# Altium footprint library Switch.PcbLib: 3 footprints
Each footprint in its own frame and in the unit in brackets; x right, y up, seen from the top. Pads: shape width x height; smd on the part's side, far side on the other; paste and mask are expansions set on the pad; w line width, h text height; cw(c..) or ccw(c..) is an arc to the next point about the centre after c.
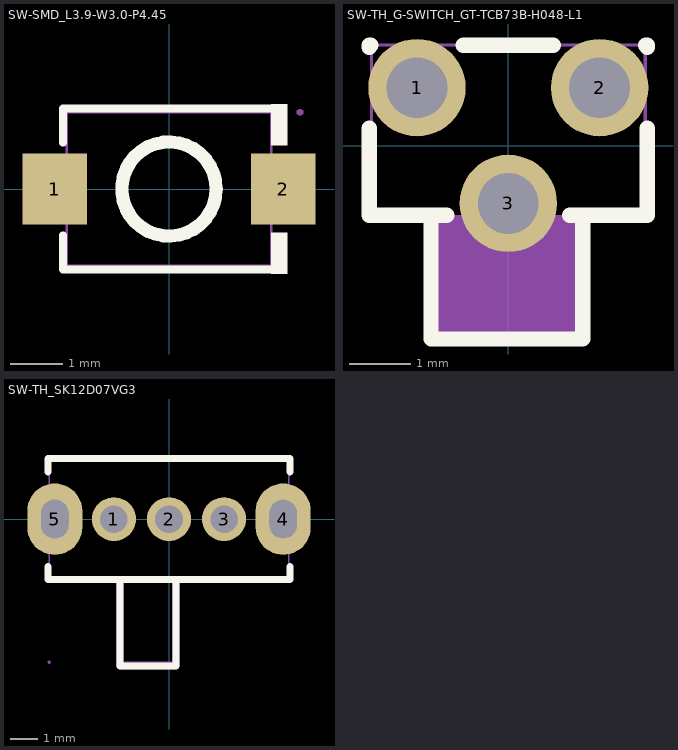
[diagram p0: the footprints below, top view; thin cyan lines are the x and y axes]

## SW-SMD_L3.9-W3.0-P4.45 [mm]
pads (2):
  rect 1.23x1.36 smd paste+0 mask+0.051: 1(-2.185,0) 2(2.185,0)
Top Overlay:
  circle w0.254: c0,0 r0.9
  region: 1.95,-1.617 1.95,-0.832 2.255,-0.832 2.255,-1.617
  region: 1.95,1.617 1.95,0.832 2.255,0.832 2.255,1.617
  lines w0.152: -2.026,-0.883 -2.026,-1.541 2.026,-1.541 ; -2.026,0.883 -2.026,1.541 2.026,1.541
Mechanical 15:
  region: 2.56,1.465 2.56,1.49 2.525,1.525 2.475,1.525 2.44,1.49 2.44,1.465 2.44,1.44 2.475,1.405 2.525,1.405 2.56,1.44 2.56,1.465
  region: 2.5,0.65 2.5,-0.65 1.6,-0.65 1.6,0.65
  region: -2.5,0.65 -2.5,-0.65 -1.6,-0.65 -1.6,0.65
  lines w0.051: -1.95,-1.465 1.95,-1.465 1.95,1.465 -1.95,1.465 -1.95,-1.465
3D body "SW-SMD_L3.9-W3.0-P4.45.STEP": height 1.95, standoff 0, extent -2.4,-1.45 2.4,1.45

## SW-TH_G-SWITCH_GT-TCB73B-H048-L1 [mm]
pads (3):
  round 1.6 hole 1 paste+0 mask+0.051: 1(-1.5,0.95) 2(1.5,0.95) 3(0,-0.95)
Top Overlay:
  lines w0.254: -2.286,0.284 -2.286,-1.147 -1.012,-1.147 ; -2.286,1.616 -2.286,1.647 -2.259,1.647 ; -1.246,-1.147 -1.27,-1.147 -1.27,-3.179 1.221,-3.179 1.221,-1.147 ; -0.741,1.647 0.741,1.647 ; 1.012,-1.147 2.286,-1.147 2.286,0.284 ; 2.259,1.647 2.286,1.647 2.286,1.616
Mechanical 6:
  region: -1.25,-3.145 -1.25,-1.145 1.25,-1.145 1.25,-3.145
Mechanical 15:
  region: -2.19,1.65 -2.19,1.675 -2.225,1.71 -2.275,1.71 -2.31,1.675 -2.31,1.65 -2.31,1.625 -2.275,1.59 -2.225,1.59 -2.19,1.625 -2.19,1.65
  region: -1.85,1.15 -1.15,1.15 -1.15,0.75 -1.85,0.75
  region: -0.35,-0.75 0.35,-0.75 0.35,-1.15 -0.35,-1.15
  region: 1.15,1.15 1.85,1.15 1.85,0.75 1.15,0.75
  lines w0.051: -2.25,-1.15 -2.25,1.65 2.25,1.65 2.25,-1.15 1.25,-1.15 1.25,-3.145 -1.25,-3.145 -1.25,-1.15 -2.25,-1.15
3D body "SW-TH_G-SWITCH_GT-TCB73B-H048-L1.STEP": height 4.47, standoff -3.03, extent -2.25,-3.079 2.251,1.721

## SW-TH_SK12D07VG3 [mm]
pads (5):
  round 1.6 hole 1 paste+0 mask+0.051: 1(-2,0) 2(0,0) 3(2,0)
  oval 2x2.6 hole 1 slot 1.4 at 90 deg paste+0 mask+0.051: 4(4.15,0) 5(-4.15,0)
Top Overlay:
  lines w0.254: -4.4,-1.715 -4.4,-2.2 4.4,-2.2 4.4,-1.715 ; -4.4,1.715 -4.4,2.2 4.4,2.2 4.4,1.715 ; -1.784,-2.2 -1.784,-5.334 0.254,-5.334 0.254,-2.2
Mechanical 6:
  region: -1.657,-2.2 -1.657,-5.207 0.127,-5.207 0.127,-2.2 0.127,-2.147 0.201,-2.073 0.307,-2.073 0.381,-2.147 0.381,-2.2 0.381,-5.334 0.381,-5.359 0.362,-5.406 0.326,-5.442 0.279,-5.461 0.254,-5.461 -1.784,-5.461 -1.809,-5.461 -1.856,-5.442 -1.891,-5.406 -1.911,-5.359 -1.911,-5.334 -1.911,-2.2 -1.911,-2.147 -1.836,-2.073 -1.731,-2.073 -1.657,-2.147 -1.657,-2.2
Mechanical 15:
  region: -4.35,-0.6 -4.35,0.6 -3.95,0.6 -3.95,-0.6
  region: 3.95,-0.6 3.95,0.6 4.35,0.6 4.35,-0.6
  region: -1.75,0.15 -1.75,-0.15 -2.25,-0.15 -2.25,0.15
  region: 0.25,0.15 0.25,-0.15 -0.25,-0.15 -0.25,0.15
  region: 2.25,0.15 2.25,-0.15 1.75,-0.15 1.75,0.15
  region: -4.29,-5.2 -4.29,-5.175 -4.325,-5.14 -4.375,-5.14 -4.41,-5.175 -4.41,-5.2 -4.41,-5.225 -4.375,-5.26 -4.325,-5.26 -4.29,-5.225 -4.29,-5.2
  lines w0.051: -4.35,-2.2 -1.815,-2.2 -1.815,-5.2 0.185,-5.2 0.185,-2.2 4.35,-2.2 4.35,2.2 -4.35,2.2 -4.35,-2.2
3D body "SW-TH_SK12D07VG3.STEP": height 4.7, standoff -2.8, extent -4.35,-6.223 4.35,2.177